# Altium footprint library 68WR.PcbLib: 1 footprints
Each footprint in its own frame and in the unit in brackets; x right, y up, seen from the top. Pads: shape width x height; smd on the part's side, far side on the other; paste and mask are expansions set on the pad; w line width, h text height; cw(c..) or ccw(c..) is an arc to the next point about the centre after c.
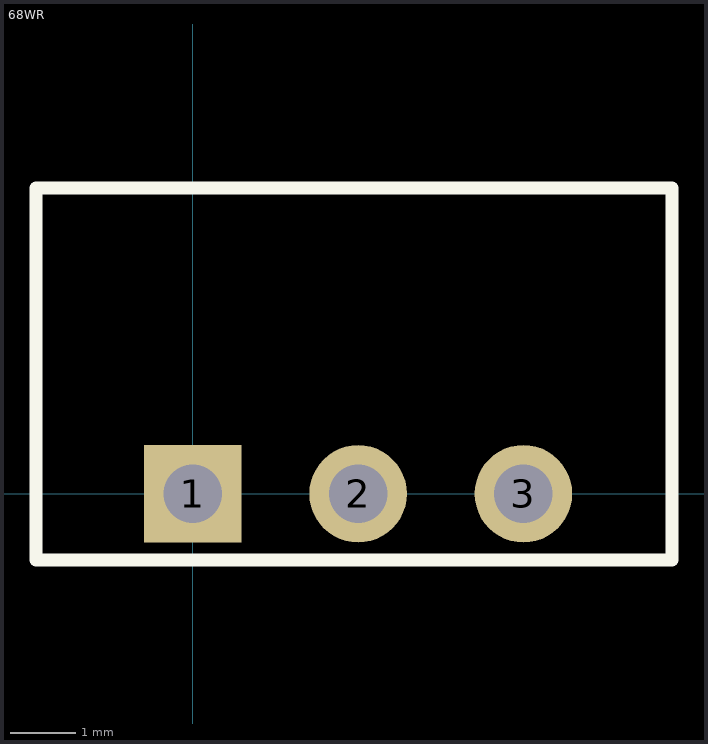
[diagram p0: the footprint, top view; thin cyan lines are the x and y axes]

## 68WR [mm] "Potentiometer, 68WR"
pads (3):
  rect 1.5x1.5 hole 0.9: 1(0,0)
  round 1.5 hole 0.9: 2(2.54,0) 3(5.08,0)
Top Overlay:
  lines w0.2: -2.413,-1.016 7.366,-1.016 7.366,4.699 -2.413,4.699 -2.413,-1.016
3D body "3D-Drawing-68w.stp": height 11.37, standoff -5.09, extent -2.349,-1.016 7.429,4.699